# Altium integrated library Renesas Standard Linear.IntLib: 102 symbols (part 1 of 3)
Pins are listed as number, name and electrical type; pins without a type are passive.

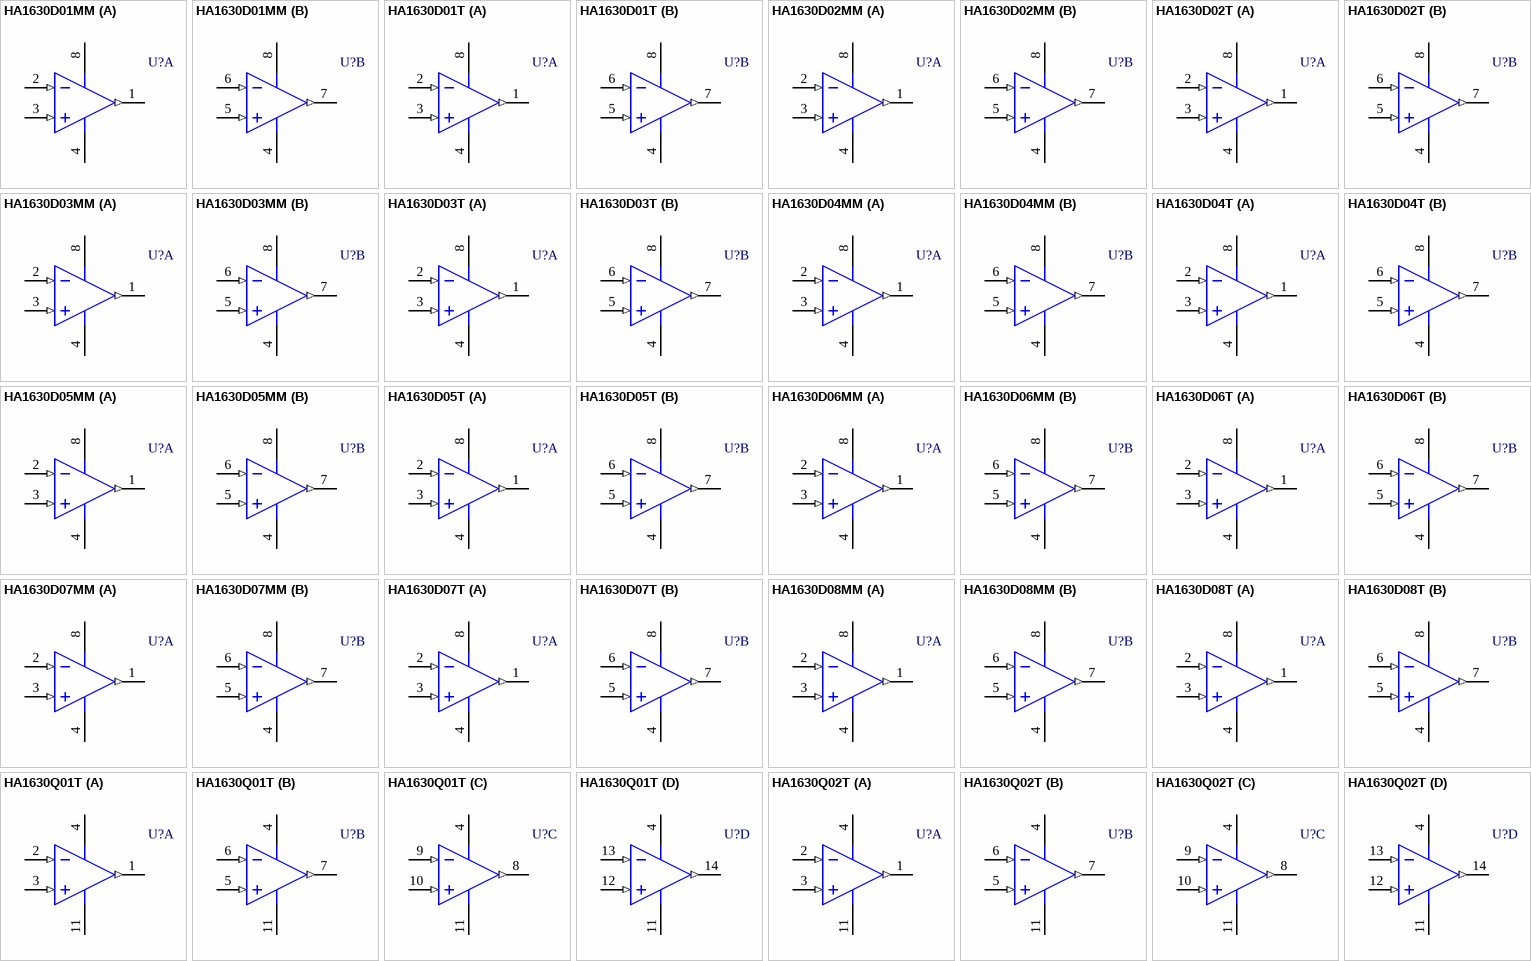
[diagram p0: symbols HA1630D01MM to HA1630Q02T]

## HA1630D01MM
designator U?
Dual CMOS Operational Amplifiers, Output full swing, Standard, VDD (1.8 to 5.5V), -40 to +85°C, 8-Pin MMPAK; Published: 5-Feb-2010; DatasheetVersion: Rev.2.00, Feb-2007; PackageVersion: 2008; PackageReference: PLSP0008JC-A; Publisher: Altium Limited; PackageDescription: 8-Pin Plastic Thin Small Outline Package 0.65 mm Pitch (MMPAK-8); Code_JEITA: P-LSOP8-2.8x2.95-0.65; ComponentLink1Description: Manufacturer Link; ComponentLink1URL: http://sg.renesas.com/fmwk.jsp?cnt=standard_linear_landing.jsp&fp=/products/standard_ic/general_purpose_linear/standard_linear; ComponentLink2Description: Datasheet; ComponentLink2URL: http://documentation.renesas.com/eng/products/linear/rej03d0800_ha1630d01ds.pdf
footprint PLSP0008JC-A_N (TSOP, 8-Leads, Body 2.95x2.8mm, Pitch 0.65mm, IPC Medium Density)
footprint PLSP0008JC-A_L (TSOP, 8-Leads, Body 2.95x2.8mm, Pitch 0.65mm, IPC High Density)
footprint PLSP0008JC-A_M (TSOP, 8-Leads, Body 2.95x2.8mm, Pitch 0.65mm, IPC Low Density)
pins on every part: 4 VSS (power), 8 VDD (power)
part A pins: 1 OUT (out), 2 IN- (in), 3 IN+ (in)
part B pins: 5 IN+ (in), 6 IN- (in), 7 OUT (out)

## HA1630D01T
designator U?
Dual CMOS Operational Amplifiers, Output full swing, Standard, VDD (1.8 to 5.5V), -40 to +85°C, 8-Pin TSSOP; Published: 5-Feb-2010; DatasheetVersion: Rev.2.00, Feb-2007; PackageVersion: Sep-2005; PackageReference: PTSP0008JC-B; Publisher: Altium Limited; PackageDescription: 8-Pin Plastic Thin Small Outline Package 0.65 mm Pitch (TSSOP-8); Code_JEITA: P-TSSOP8-4.4x3-0.65; ComponentLink1Description: Manufacturer Link; ComponentLink1URL: http://sg.renesas.com/fmwk.jsp?cnt=standard_linear_landing.jsp&fp=/products/standard_ic/general_purpose_linear/standard_linear; ComponentLink2Description: Datasheet; ComponentLink2URL: http://documentation.renesas.com/eng/products/linear/rej03d0800_ha1630d01ds.pdf; ComponentLink3Description: Packaging Specification; ComponentLink3URL: http://sg.renesas.com/media/products/common_info/package/pdf/ic/code/ptsp0008jc_b.pdf
footprint PTSP0008JC-B_N (TSOP, 8-Leads, Body 3x4.4mm, Pitch 0.65mm, IPC Medium Density)
footprint PTSP0008JC-B_L (TSOP, 8-Leads, Body 3x4.4mm, Pitch 0.65mm, IPC High Density)
footprint PTSP0008JC-B_M (TSOP, 8-Leads, Body 3x4.4mm, Pitch 0.65mm, IPC Low Density)
pins on every part: 4 VSS (power), 8 VDD (power)
part A pins: 1 OUT (out), 2 IN- (in), 3 IN+ (in)
part B pins: 5 IN+ (in), 6 IN- (in), 7 OUT (out)

## HA1630D02MM
designator U?
Dual CMOS Operational Amplifiers, Output full swing, Standard, VDD (1.8 to 5.5V), -40 to +85°C, 8-Pin MMPAK; Published: 5-Feb-2010; DatasheetVersion: Rev.2.00, Feb-2007; PackageVersion: 2008; PackageReference: PLSP0008JC-A; Publisher: Altium Limited; PackageDescription: 8-Pin Plastic Thin Small Outline Package 0.65 mm Pitch (MMPAK-8); Code_JEITA: P-LSOP8-2.8x2.95-0.65; ComponentLink1Description: Manufacturer Link; ComponentLink1URL: http://sg.renesas.com/fmwk.jsp?cnt=standard_linear_landing.jsp&fp=/products/standard_ic/general_purpose_linear/standard_linear; ComponentLink2Description: Datasheet; ComponentLink2URL: http://documentation.renesas.com/eng/products/linear/rej03d0800_ha1630d01ds.pdf
footprint PLSP0008JC-A_N (TSOP, 8-Leads, Body 2.95x2.8mm, Pitch 0.65mm, IPC Medium Density)
footprint PLSP0008JC-A_L (TSOP, 8-Leads, Body 2.95x2.8mm, Pitch 0.65mm, IPC High Density)
footprint PLSP0008JC-A_M (TSOP, 8-Leads, Body 2.95x2.8mm, Pitch 0.65mm, IPC Low Density)
pins on every part: 4 VSS (power), 8 VDD (power)
part A pins: 1 OUT (out), 2 IN- (in), 3 IN+ (in)
part B pins: 5 IN+ (in), 6 IN- (in), 7 OUT (out)

## HA1630D02T
designator U?
Dual CMOS Operational Amplifiers, Output full swing, Standard, VDD (1.8 to 5.5V), -40 to +85°C, 8-Pin TSSOP; Published: 5-Feb-2010; DatasheetVersion: Rev.2.00, Feb-2007; PackageVersion: Sep-2005; PackageReference: PTSP0008JC-B; Publisher: Altium Limited; PackageDescription: 8-Pin Plastic Thin Small Outline Package 0.65 mm Pitch (TSSOP-8); Code_JEITA: P-TSSOP8-4.4x3-0.65; ComponentLink1Description: Manufacturer Link; ComponentLink1URL: http://sg.renesas.com/fmwk.jsp?cnt=standard_linear_landing.jsp&fp=/products/standard_ic/general_purpose_linear/standard_linear; ComponentLink2Description: Datasheet; ComponentLink2URL: http://documentation.renesas.com/eng/products/linear/rej03d0800_ha1630d01ds.pdf; ComponentLink3Description: Packaging Specification; ComponentLink3URL: http://sg.renesas.com/media/products/common_info/package/pdf/ic/code/ptsp0008jc_b.pdf
footprint PTSP0008JC-B_N (TSOP, 8-Leads, Body 3x4.4mm, Pitch 0.65mm, IPC Medium Density)
footprint PTSP0008JC-B_L (TSOP, 8-Leads, Body 3x4.4mm, Pitch 0.65mm, IPC High Density)
footprint PTSP0008JC-B_M (TSOP, 8-Leads, Body 3x4.4mm, Pitch 0.65mm, IPC Low Density)
pins on every part: 4 VSS (power), 8 VDD (power)
part A pins: 1 OUT (out), 2 IN- (in), 3 IN+ (in)
part B pins: 5 IN+ (in), 6 IN- (in), 7 OUT (out)

## HA1630D03MM
designator U?
Dual CMOS Operational Amplifiers, Output full swing, Standard, VDD (1.8 to 5.5V), -40 to +85°C, 8-Pin MMPAK; Published: 5-Feb-2010; DatasheetVersion: Rev.2.00, Feb-2007; PackageVersion: 2008; PackageReference: PLSP0008JC-A; Publisher: Altium Limited; PackageDescription: 8-Pin Plastic Thin Small Outline Package 0.65 mm Pitch (MMPAK-8); Code_JEITA: P-LSOP8-2.8x2.95-0.65; ComponentLink1Description: Manufacturer Link; ComponentLink1URL: http://sg.renesas.com/fmwk.jsp?cnt=standard_linear_landing.jsp&fp=/products/standard_ic/general_purpose_linear/standard_linear; ComponentLink2Description: Datasheet; ComponentLink2URL: http://documentation.renesas.com/eng/products/linear/rej03d0800_ha1630d01ds.pdf
footprint PLSP0008JC-A_N (TSOP, 8-Leads, Body 2.95x2.8mm, Pitch 0.65mm, IPC Medium Density)
footprint PLSP0008JC-A_L (TSOP, 8-Leads, Body 2.95x2.8mm, Pitch 0.65mm, IPC High Density)
footprint PLSP0008JC-A_M (TSOP, 8-Leads, Body 2.95x2.8mm, Pitch 0.65mm, IPC Low Density)
pins on every part: 4 VSS (power), 8 VDD (power)
part A pins: 1 OUT (out), 2 IN- (in), 3 IN+ (in)
part B pins: 5 IN+ (in), 6 IN- (in), 7 OUT (out)

## HA1630D03T
designator U?
Dual CMOS Operational Amplifiers, Output full swing, Standard, VDD (1.8 to 5.5V), -40 to +85°C, 8-Pin TSSOP; Published: 5-Feb-2010; DatasheetVersion: Rev.2.00, Feb-2007; PackageVersion: Sep-2005; PackageReference: PTSP0008JC-B; Publisher: Altium Limited; PackageDescription: 8-Pin Plastic Thin Small Outline Package 0.65 mm Pitch (TSSOP-8); Code_JEITA: P-TSSOP8-4.4x3-0.65; ComponentLink1Description: Manufacturer Link; ComponentLink1URL: http://sg.renesas.com/fmwk.jsp?cnt=standard_linear_landing.jsp&fp=/products/standard_ic/general_purpose_linear/standard_linear; ComponentLink2Description: Datasheet; ComponentLink2URL: http://documentation.renesas.com/eng/products/linear/rej03d0800_ha1630d01ds.pdf; ComponentLink3Description: Packaging Specification; ComponentLink3URL: http://sg.renesas.com/media/products/common_info/package/pdf/ic/code/ptsp0008jc_b.pdf
footprint PTSP0008JC-B_N (TSOP, 8-Leads, Body 3x4.4mm, Pitch 0.65mm, IPC Medium Density)
footprint PTSP0008JC-B_L (TSOP, 8-Leads, Body 3x4.4mm, Pitch 0.65mm, IPC High Density)
footprint PTSP0008JC-B_M (TSOP, 8-Leads, Body 3x4.4mm, Pitch 0.65mm, IPC Low Density)
pins on every part: 4 VSS (power), 8 VDD (power)
part A pins: 1 OUT (out), 2 IN- (in), 3 IN+ (in)
part B pins: 5 IN+ (in), 6 IN- (in), 7 OUT (out)

## HA1630D04MM
designator U?
Dual CMOS Operational Amplifiers, Output full swing, High slew rate, VDD (1.8 to 5.5V), -40 to +85°C, 8-Pin MMPAK; Published: 5-Feb-2010; DatasheetVersion: Rev.2.00, Feb-2007; PackageVersion: 2008; PackageReference: PLSP0008JC-A; Publisher: Altium Limited; PackageDescription: 8-Pin Plastic Thin Small Outline Package 0.65 mm Pitch (MMPAK-8); Code_JEITA: P-LSOP8-2.8x2.95-0.65; ComponentLink1Description: Manufacturer Link; ComponentLink1URL: http://sg.renesas.com/fmwk.jsp?cnt=standard_linear_landing.jsp&fp=/products/standard_ic/general_purpose_linear/standard_linear; ComponentLink2Description: Datasheet; ComponentLink2URL: http://documentation.renesas.com/eng/products/linear/rej03d0801_ha1630d04ds.pdf
footprint PLSP0008JC-A_N (TSOP, 8-Leads, Body 2.95x2.8mm, Pitch 0.65mm, IPC Medium Density)
footprint PLSP0008JC-A_L (TSOP, 8-Leads, Body 2.95x2.8mm, Pitch 0.65mm, IPC High Density)
footprint PLSP0008JC-A_M (TSOP, 8-Leads, Body 2.95x2.8mm, Pitch 0.65mm, IPC Low Density)
pins on every part: 4 VSS (power), 8 VDD (power)
part A pins: 1 OUT (out), 2 IN- (in), 3 IN+ (in)
part B pins: 5 IN+ (in), 6 IN- (in), 7 OUT (out)

## HA1630D04T
designator U?
Dual CMOS Operational Amplifiers, Output full swing, High slew rate, VDD (1.8 to 5.5V), -40 to +85°C, 8-Pin TSSOP; Published: 5-Feb-2010; DatasheetVersion: Rev.2.00, Feb-2007; PackageVersion: Sep-2005; PackageReference: PTSP0008JC-B; Publisher: Altium Limited; PackageDescription: 8-Pin Plastic Thin Small Outline Package 0.65 mm Pitch (TSSOP-8); Code_JEITA: P-TSSOP8-4.4x3-0.65; ComponentLink1Description: Manufacturer Link; ComponentLink1URL: http://sg.renesas.com/fmwk.jsp?cnt=standard_linear_landing.jsp&fp=/products/standard_ic/general_purpose_linear/standard_linear; ComponentLink2Description: Datasheet; ComponentLink2URL: http://documentation.renesas.com/eng/products/linear/rej03d0801_ha1630d04ds.pdf; ComponentLink3Description: Packaging Specification; ComponentLink3URL: http://sg.renesas.com/media/products/common_info/package/pdf/ic/code/ptsp0008jc_b.pdf
footprint PTSP0008JC-B_N (TSOP, 8-Leads, Body 3x4.4mm, Pitch 0.65mm, IPC Medium Density)
footprint PTSP0008JC-B_L (TSOP, 8-Leads, Body 3x4.4mm, Pitch 0.65mm, IPC High Density)
footprint PTSP0008JC-B_M (TSOP, 8-Leads, Body 3x4.4mm, Pitch 0.65mm, IPC Low Density)
pins on every part: 4 VSS (power), 8 VDD (power)
part A pins: 1 OUT (out), 2 IN- (in), 3 IN+ (in)
part B pins: 5 IN+ (in), 6 IN- (in), 7 OUT (out)

## HA1630D05MM
designator U?
Dual CMOS Operational Amplifiers, Output full swing, High slew rate, VDD (1.8 to 5.5V), -40 to +85°C, 8-Pin MMPAK; Published: 5-Feb-2010; DatasheetVersion: Rev.2.00, Feb-2007; PackageVersion: 2008; PackageReference: PLSP0008JC-A; Publisher: Altium Limited; PackageDescription: 8-Pin Plastic Thin Small Outline Package 0.65 mm Pitch (MMPAK-8); Code_JEITA: P-LSOP8-2.8x2.95-0.65; ComponentLink1Description: Manufacturer Link; ComponentLink1URL: http://sg.renesas.com/fmwk.jsp?cnt=standard_linear_landing.jsp&fp=/products/standard_ic/general_purpose_linear/standard_linear; ComponentLink2Description: Datasheet; ComponentLink2URL: http://documentation.renesas.com/eng/products/linear/rej03d0801_ha1630d04ds.pdf
footprint PLSP0008JC-A_N (TSOP, 8-Leads, Body 2.95x2.8mm, Pitch 0.65mm, IPC Medium Density)
footprint PLSP0008JC-A_L (TSOP, 8-Leads, Body 2.95x2.8mm, Pitch 0.65mm, IPC High Density)
footprint PLSP0008JC-A_M (TSOP, 8-Leads, Body 2.95x2.8mm, Pitch 0.65mm, IPC Low Density)
pins on every part: 4 VSS (power), 8 VDD (power)
part A pins: 1 OUT (out), 2 IN- (in), 3 IN+ (in)
part B pins: 5 IN+ (in), 6 IN- (in), 7 OUT (out)

## HA1630D05T
designator U?
Dual CMOS Operational Amplifiers, Output full swing, High slew rate, VDD (1.8 to 5.5V), -40 to +85°C, 8-Pin TSSOP; Published: 5-Feb-2010; DatasheetVersion: Rev.2.00, Feb-2007; PackageVersion: Sep-2005; PackageReference: PTSP0008JC-B; Publisher: Altium Limited; PackageDescription: 8-Pin Plastic Thin Small Outline Package 0.65 mm Pitch (TSSOP-8); Code_JEITA: P-TSSOP8-4.4x3-0.65; ComponentLink1Description: Manufacturer Link; ComponentLink1URL: http://sg.renesas.com/fmwk.jsp?cnt=standard_linear_landing.jsp&fp=/products/standard_ic/general_purpose_linear/standard_linear; ComponentLink2Description: Datasheet; ComponentLink2URL: http://documentation.renesas.com/eng/products/linear/rej03d0801_ha1630d04ds.pdf; ComponentLink3Description: Packaging Specification; ComponentLink3URL: http://sg.renesas.com/media/products/common_info/package/pdf/ic/code/ptsp0008jc_b.pdf
footprint PTSP0008JC-B_N (TSOP, 8-Leads, Body 3x4.4mm, Pitch 0.65mm, IPC Medium Density)
footprint PTSP0008JC-B_L (TSOP, 8-Leads, Body 3x4.4mm, Pitch 0.65mm, IPC High Density)
footprint PTSP0008JC-B_M (TSOP, 8-Leads, Body 3x4.4mm, Pitch 0.65mm, IPC Low Density)
pins on every part: 4 VSS (power), 8 VDD (power)
part A pins: 1 OUT (out), 2 IN- (in), 3 IN+ (in)
part B pins: 5 IN+ (in), 6 IN- (in), 7 OUT (out)

## HA1630D06MM
designator U?
Dual CMOS Operational Amplifiers, Output full swing, High slew rate, VDD (1.8 to 5.5V), -40 to +85°C, 8-Pin MMPAK; Published: 5-Feb-2010; DatasheetVersion: Rev.2.00, Feb-2007; PackageVersion: 2008; PackageReference: PLSP0008JC-A; Publisher: Altium Limited; PackageDescription: 8-Pin Plastic Thin Small Outline Package 0.65 mm Pitch (MMPAK-8); Code_JEITA: P-LSOP8-2.8x2.95-0.65; ComponentLink1Description: Manufacturer Link; ComponentLink1URL: http://sg.renesas.com/fmwk.jsp?cnt=standard_linear_landing.jsp&fp=/products/standard_ic/general_purpose_linear/standard_linear; ComponentLink2Description: Datasheet; ComponentLink2URL: http://documentation.renesas.com/eng/products/linear/rej03d0801_ha1630d04ds.pdf
footprint PLSP0008JC-A_N (TSOP, 8-Leads, Body 2.95x2.8mm, Pitch 0.65mm, IPC Medium Density)
footprint PLSP0008JC-A_L (TSOP, 8-Leads, Body 2.95x2.8mm, Pitch 0.65mm, IPC High Density)
footprint PLSP0008JC-A_M (TSOP, 8-Leads, Body 2.95x2.8mm, Pitch 0.65mm, IPC Low Density)
pins on every part: 4 VSS (power), 8 VDD (power)
part A pins: 1 OUT (out), 2 IN- (in), 3 IN+ (in)
part B pins: 5 IN+ (in), 6 IN- (in), 7 OUT (out)

## HA1630D06T
designator U?
Dual CMOS Operational Amplifiers, Output full swing, High slew rate, VDD (1.8 to 5.5V), -40 to +85°C, 8-Pin TSSOP; Published: 5-Feb-2010; DatasheetVersion: Rev.2.00, Feb-2007; PackageVersion: Sep-2005; PackageReference: PTSP0008JC-B; Publisher: Altium Limited; PackageDescription: 8-Pin Plastic Thin Small Outline Package 0.65 mm Pitch (TSSOP-8); Code_JEITA: P-TSSOP8-4.4x3-0.65; ComponentLink1Description: Manufacturer Link; ComponentLink1URL: http://sg.renesas.com/fmwk.jsp?cnt=standard_linear_landing.jsp&fp=/products/standard_ic/general_purpose_linear/standard_linear; ComponentLink2Description: Datasheet; ComponentLink2URL: http://documentation.renesas.com/eng/products/linear/rej03d0801_ha1630d04ds.pdf; ComponentLink3Description: Packaging Specification; ComponentLink3URL: http://sg.renesas.com/media/products/common_info/package/pdf/ic/code/ptsp0008jc_b.pdf
footprint PTSP0008JC-B_N (TSOP, 8-Leads, Body 3x4.4mm, Pitch 0.65mm, IPC Medium Density)
footprint PTSP0008JC-B_L (TSOP, 8-Leads, Body 3x4.4mm, Pitch 0.65mm, IPC High Density)
footprint PTSP0008JC-B_M (TSOP, 8-Leads, Body 3x4.4mm, Pitch 0.65mm, IPC Low Density)
pins on every part: 4 VSS (power), 8 VDD (power)
part A pins: 1 OUT (out), 2 IN- (in), 3 IN+ (in)
part B pins: 5 IN+ (in), 6 IN- (in), 7 OUT (out)

## HA1630D07MM
designator U?
Dual CMOS High Drive Operational Amplifier, VDD (2.7 to 5.5V), -40 to +85°C, 8-Pin MMPAK; Published: 5-Feb-2010; DatasheetVersion: Rev.2.00, Nov-2007; PackageVersion: 2008; PackageReference: PLSP0008JC-A; Publisher: Altium Limited; PackageDescription: 8-Pin Plastic Thin Small Outline Package 0.65 mm Pitch (MMPAK-8); Code_JEITA: P-LSOP8-2.8x2.95-0.65; ComponentLink1Description: Manufacturer Link; ComponentLink1URL: http://sg.renesas.com/fmwk.jsp?cnt=standard_linear_landing.jsp&fp=/products/standard_ic/general_purpose_linear/standard_linear; ComponentLink2Description: Datasheet; ComponentLink2URL: http://documentation.renesas.com/eng/products/linear/rej03d0859_ha1630d07t.pdf
footprint PLSP0008JC-A_N (TSOP, 8-Leads, Body 2.95x2.8mm, Pitch 0.65mm, IPC Medium Density)
footprint PLSP0008JC-A_L (TSOP, 8-Leads, Body 2.95x2.8mm, Pitch 0.65mm, IPC High Density)
footprint PLSP0008JC-A_M (TSOP, 8-Leads, Body 2.95x2.8mm, Pitch 0.65mm, IPC Low Density)
pins on every part: 4 VSS (power), 8 VDD (power)
part A pins: 1 OUT (out), 2 IN- (in), 3 IN+ (in)
part B pins: 5 IN+ (in), 6 IN- (in), 7 OUT (out)

## HA1630D07T
designator U?
Dual CMOS High Drive Operational Amplifier, VDD (2.7 to 5.5V), -40 to +85°C, 8-Pin TSSOP; Published: 5-Feb-2010; DatasheetVersion: Rev.2.00, Nov-2007; PackageVersion: Sep-2005; PackageReference: PTSP0008JC-B; Publisher: Altium Limited; PackageDescription: 8-Pin Plastic Thin Small Outline Package 0.65 mm Pitch (TSSOP-8); Code_JEITA: P-TSSOP8-4.4x3-0.65; ComponentLink1Description: Manufacturer Link; ComponentLink1URL: http://sg.renesas.com/fmwk.jsp?cnt=standard_linear_landing.jsp&fp=/products/standard_ic/general_purpose_linear/standard_linear; ComponentLink2Description: Datasheet; ComponentLink2URL: http://documentation.renesas.com/eng/products/linear/rej03d0859_ha1630d07t.pdf; ComponentLink3Description: Packaging Specification; ComponentLink3URL: http://sg.renesas.com/media/products/common_info/package/pdf/ic/code/ptsp0008jc_b.pdf
footprint PTSP0008JC-B_N (TSOP, 8-Leads, Body 3x4.4mm, Pitch 0.65mm, IPC Medium Density)
footprint PTSP0008JC-B_L (TSOP, 8-Leads, Body 3x4.4mm, Pitch 0.65mm, IPC High Density)
footprint PTSP0008JC-B_M (TSOP, 8-Leads, Body 3x4.4mm, Pitch 0.65mm, IPC Low Density)
pins on every part: 4 VSS (power), 8 VDD (power)
part A pins: 1 OUT (out), 2 IN- (in), 3 IN+ (in)
part B pins: 5 IN+ (in), 6 IN- (in), 7 OUT (out)

## HA1630D08MM
designator U?
Dual CMOS High Drive Operational Amplifier, VDD (2.7 to 5.5V), -40 to +85°C, 8-Pin MMPAK; Published: 5-Feb-2010; DatasheetVersion: Rev.2.00, Nov-2007; PackageVersion: 2008; PackageReference: PLSP0008JC-A; Publisher: Altium Limited; PackageDescription: 8-Pin Plastic Thin Small Outline Package 0.65 mm Pitch (MMPAK-8); Code_JEITA: P-LSOP8-2.8x2.95-0.65; ComponentLink1Description: Manufacturer Link; ComponentLink1URL: http://sg.renesas.com/fmwk.jsp?cnt=standard_linear_landing.jsp&fp=/products/standard_ic/general_purpose_linear/standard_linear; ComponentLink2Description: Datasheet; ComponentLink2URL: http://documentation.renesas.com/eng/products/linear/rej03d0860_ha1630d08t.pdf
footprint PLSP0008JC-A_N (TSOP, 8-Leads, Body 2.95x2.8mm, Pitch 0.65mm, IPC Medium Density)
footprint PLSP0008JC-A_L (TSOP, 8-Leads, Body 2.95x2.8mm, Pitch 0.65mm, IPC High Density)
footprint PLSP0008JC-A_M (TSOP, 8-Leads, Body 2.95x2.8mm, Pitch 0.65mm, IPC Low Density)
pins on every part: 4 VSS (power), 8 VDD (power)
part A pins: 1 OUT (out), 2 IN- (in), 3 IN+ (in)
part B pins: 5 IN+ (in), 6 IN- (in), 7 OUT (out)

## HA1630D08T
designator U?
Dual CMOS High Drive Operational Amplifier, VDD (2.7 to 5.5V), -40 to +85°C, 8-Pin TSSOP; Published: 5-Feb-2010; DatasheetVersion: Rev.2.00, Nov-2007; PackageVersion: Sep-2005; PackageReference: PTSP0008JC-B; Publisher: Altium Limited; PackageDescription: 8-Pin Plastic Thin Small Outline Package 0.65 mm Pitch (TSSOP-8); Code_JEITA: P-TSSOP8-4.4x3-0.65; ComponentLink1Description: Manufacturer Link; ComponentLink1URL: http://sg.renesas.com/fmwk.jsp?cnt=standard_linear_landing.jsp&fp=/products/standard_ic/general_purpose_linear/standard_linear; ComponentLink2Description: Datasheet; ComponentLink2URL: http://documentation.renesas.com/eng/products/linear/rej03d0860_ha1630d08t.pdf; ComponentLink3Description: Packaging Specification; ComponentLink3URL: http://sg.renesas.com/media/products/common_info/package/pdf/ic/code/ptsp0008jc_b.pdf
footprint PTSP0008JC-B_N (TSOP, 8-Leads, Body 3x4.4mm, Pitch 0.65mm, IPC Medium Density)
footprint PTSP0008JC-B_L (TSOP, 8-Leads, Body 3x4.4mm, Pitch 0.65mm, IPC High Density)
footprint PTSP0008JC-B_M (TSOP, 8-Leads, Body 3x4.4mm, Pitch 0.65mm, IPC Low Density)
pins on every part: 4 VSS (power), 8 VDD (power)
part A pins: 1 OUT (out), 2 IN- (in), 3 IN+ (in)
part B pins: 5 IN+ (in), 6 IN- (in), 7 OUT (out)

## HA1630Q01T
designator U?
Quad CMOS Operational Amplifiers, Output full swing, Standard, VDD (1.8 to 5.5V), -40 to +85°C, 14-Pin TSSOP; Published: 5-Feb-2010; DatasheetVersion: Rev.1.00, Mar-2006; PackageVersion: Sep-2005; PackageReference: PTSP0014JA-B; Publisher: Altium Limited; PackageDescription: 14-Pin Plastic Thin Small Outline Package 0.65 mm Pitch; Code_JEITA: P-TSSOP14-4.4x5-0.65; ComponentLink1Description: Manufacturer Link; ComponentLink1URL: http://sg.renesas.com/fmwk.jsp?cnt=standard_linear_landing.jsp&fp=/products/standard_ic/general_purpose_linear/standard_linear; ComponentLink2Description: Datasheet; ComponentLink2URL: http://documentation.renesas.com/eng/products/linear/rej03d0802_ha1630q01ds.pdf; ComponentLink3Description: Packaging Specification; ComponentLink3URL: http://sg.renesas.com/media/products/common_info/package/pdf/ic/code/ptsp0014ja_b.pdf
footprint PTSP0014JA-B_N (TSOP, 14-Leads, Body 5x4.4mm, Pitch 0.65mm, IPC Medium Density)
footprint PTSP0014JA-B_L (TSOP, 14-Leads, Body 5x4.4mm, Pitch 0.65mm, IPC High Density)
footprint PTSP0014JA-B_M (TSOP, 14-Leads, Body 5x4.4mm, Pitch 0.65mm, IPC Low Density)
pins on every part: 4 VDD (power), 11 VSS (power)
part A pins: 1 OUT (out), 2 IN- (in), 3 IN+ (in)
part B pins: 5 IN+ (in), 6 IN- (in), 7 OUT (out)
part C pins: 8 OUT (out), 9 IN- (in), 10 IN+ (in)
part D pins: 12 IN+ (in), 13 IN- (in), 14 OUT (out)

## HA1630Q02T
designator U?
Quad CMOS Operational Amplifiers, Output full swing, Standard, VDD (1.8 to 5.5V), -40 to +85°C, 14-Pin TSSOP; Published: 5-Feb-2010; DatasheetVersion: Rev.1.00, Mar-2006; PackageVersion: Sep-2005; PackageReference: PTSP0014JA-B; Publisher: Altium Limited; PackageDescription: 14-Pin Plastic Thin Small Outline Package 0.65 mm Pitch; Code_JEITA: P-TSSOP14-4.4x5-0.65; ComponentLink1Description: Manufacturer Link; ComponentLink1URL: http://sg.renesas.com/fmwk.jsp?cnt=standard_linear_landing.jsp&fp=/products/standard_ic/general_purpose_linear/standard_linear; ComponentLink2Description: Datasheet; ComponentLink2URL: http://documentation.renesas.com/eng/products/linear/rej03d0802_ha1630q01ds.pdf; ComponentLink3Description: Packaging Specification; ComponentLink3URL: http://sg.renesas.com/media/products/common_info/package/pdf/ic/code/ptsp0014ja_b.pdf
footprint PTSP0014JA-B_N (TSOP, 14-Leads, Body 5x4.4mm, Pitch 0.65mm, IPC Medium Density)
footprint PTSP0014JA-B_L (TSOP, 14-Leads, Body 5x4.4mm, Pitch 0.65mm, IPC High Density)
footprint PTSP0014JA-B_M (TSOP, 14-Leads, Body 5x4.4mm, Pitch 0.65mm, IPC Low Density)
pins on every part: 4 VDD (power), 11 VSS (power)
part A pins: 1 OUT (out), 2 IN- (in), 3 IN+ (in)
part B pins: 5 IN+ (in), 6 IN- (in), 7 OUT (out)
part C pins: 8 OUT (out), 9 IN- (in), 10 IN+ (in)
part D pins: 12 IN+ (in), 13 IN- (in), 14 OUT (out)

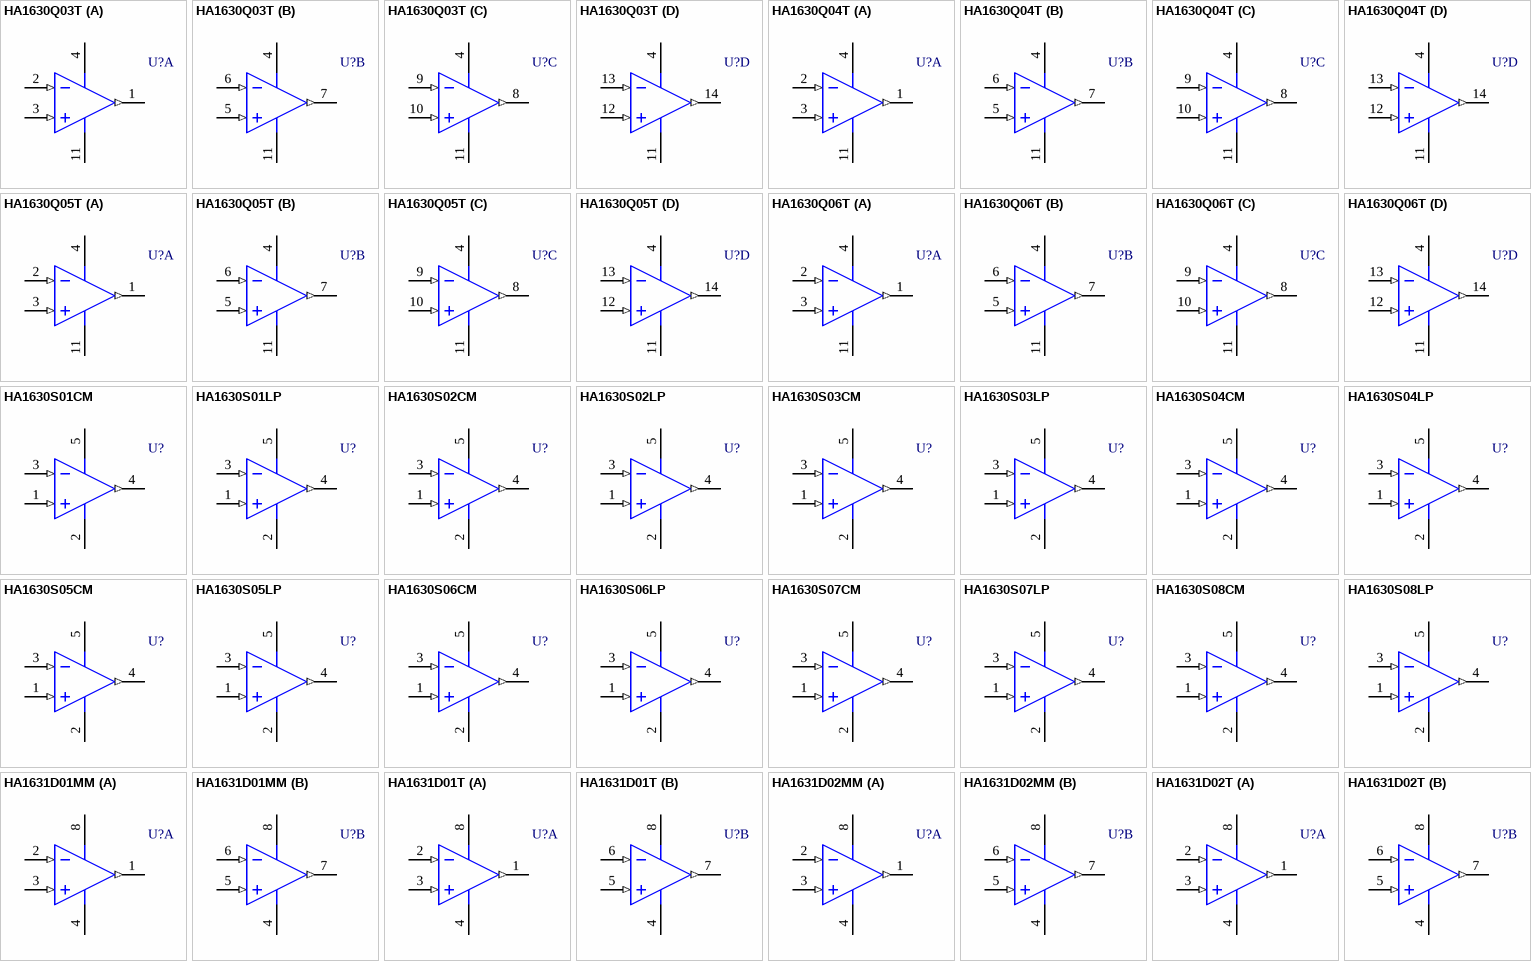
[diagram p1: symbols HA1630Q03T to HA1631D02T]

## HA1630Q03T
designator U?
Quad CMOS Operational Amplifiers, Output full swing, Standard, VDD (1.8 to 5.5V), -40 to +85°C, 14-Pin TSSOP; Published: 5-Feb-2010; DatasheetVersion: Rev.1.00, Mar-2006; PackageVersion: Sep-2005; PackageReference: PTSP0014JA-B; Publisher: Altium Limited; PackageDescription: 14-Pin Plastic Thin Small Outline Package 0.65 mm Pitch; Code_JEITA: P-TSSOP14-4.4x5-0.65; ComponentLink1Description: Manufacturer Link; ComponentLink1URL: http://sg.renesas.com/fmwk.jsp?cnt=standard_linear_landing.jsp&fp=/products/standard_ic/general_purpose_linear/standard_linear; ComponentLink2Description: Datasheet; ComponentLink2URL: http://documentation.renesas.com/eng/products/linear/rej03d0802_ha1630q01ds.pdf; ComponentLink3Description: Packaging Specification; ComponentLink3URL: http://sg.renesas.com/media/products/common_info/package/pdf/ic/code/ptsp0014ja_b.pdf
footprint PTSP0014JA-B_N (TSOP, 14-Leads, Body 5x4.4mm, Pitch 0.65mm, IPC Medium Density)
footprint PTSP0014JA-B_L (TSOP, 14-Leads, Body 5x4.4mm, Pitch 0.65mm, IPC High Density)
footprint PTSP0014JA-B_M (TSOP, 14-Leads, Body 5x4.4mm, Pitch 0.65mm, IPC Low Density)
pins on every part: 4 VDD (power), 11 VSS (power)
part A pins: 1 OUT (out), 2 IN- (in), 3 IN+ (in)
part B pins: 5 IN+ (in), 6 IN- (in), 7 OUT (out)
part C pins: 8 OUT (out), 9 IN- (in), 10 IN+ (in)
part D pins: 12 IN+ (in), 13 IN- (in), 14 OUT (out)

## HA1630Q04T
designator U?
Quad CMOS Operational Amplifiers, Output full swing, High slew rate, VDD (1.8 to 5.5V), -40 to +85°C, 14-Pin TSSOP; Published: 5-Feb-2010; DatasheetVersion: Rev.1.00, Mar-2006; PackageVersion: Sep-2005; PackageReference: PTSP0014JA-B; Publisher: Altium Limited; PackageDescription: 14-Pin Plastic Thin Small Outline Package 0.65 mm Pitch; Code_JEITA: P-TSSOP14-4.4x5-0.65; ComponentLink1Description: Manufacturer Link; ComponentLink1URL: http://sg.renesas.com/fmwk.jsp?cnt=standard_linear_landing.jsp&fp=/products/standard_ic/general_purpose_linear/standard_linear; ComponentLink2Description: Datasheet; ComponentLink2URL: http://documentation.renesas.com/eng/products/linear/rej03d0803_ha1630q04ds.pdf; ComponentLink3Description: Packaging Specification; ComponentLink3URL: http://sg.renesas.com/media/products/common_info/package/pdf/ic/code/ptsp0014ja_b.pdf
footprint PTSP0014JA-B_N (TSOP, 14-Leads, Body 5x4.4mm, Pitch 0.65mm, IPC Medium Density)
footprint PTSP0014JA-B_L (TSOP, 14-Leads, Body 5x4.4mm, Pitch 0.65mm, IPC High Density)
footprint PTSP0014JA-B_M (TSOP, 14-Leads, Body 5x4.4mm, Pitch 0.65mm, IPC Low Density)
pins on every part: 4 VDD (power), 11 VSS (power)
part A pins: 1 OUT (out), 2 IN- (in), 3 IN+ (in)
part B pins: 5 IN+ (in), 6 IN- (in), 7 OUT (out)
part C pins: 8 OUT (out), 9 IN- (in), 10 IN+ (in)
part D pins: 12 IN+ (in), 13 IN- (in), 14 OUT (out)

## HA1630Q05T
designator U?
Quad CMOS Operational Amplifiers, Output full swing, High slew rate, VDD (1.8 to 5.5V), -40 to +85°C, 14-Pin TSSOP; Published: 5-Feb-2010; DatasheetVersion: Rev.1.00, Mar-2006; PackageVersion: Sep-2005; PackageReference: PTSP0014JA-B; Publisher: Altium Limited; PackageDescription: 14-Pin Plastic Thin Small Outline Package 0.65 mm Pitch; Code_JEITA: P-TSSOP14-4.4x5-0.65; ComponentLink1Description: Manufacturer Link; ComponentLink1URL: http://sg.renesas.com/fmwk.jsp?cnt=standard_linear_landing.jsp&fp=/products/standard_ic/general_purpose_linear/standard_linear; ComponentLink2Description: Datasheet; ComponentLink2URL: http://documentation.renesas.com/eng/products/linear/rej03d0803_ha1630q04ds.pdf; ComponentLink3Description: Packaging Specification; ComponentLink3URL: http://sg.renesas.com/media/products/common_info/package/pdf/ic/code/ptsp0014ja_b.pdf
footprint PTSP0014JA-B_N (TSOP, 14-Leads, Body 5x4.4mm, Pitch 0.65mm, IPC Medium Density)
footprint PTSP0014JA-B_L (TSOP, 14-Leads, Body 5x4.4mm, Pitch 0.65mm, IPC High Density)
footprint PTSP0014JA-B_M (TSOP, 14-Leads, Body 5x4.4mm, Pitch 0.65mm, IPC Low Density)
pins on every part: 4 VDD (power), 11 VSS (power)
part A pins: 1 OUT (out), 2 IN- (in), 3 IN+ (in)
part B pins: 5 IN+ (in), 6 IN- (in), 7 OUT (out)
part C pins: 8 OUT (out), 9 IN- (in), 10 IN+ (in)
part D pins: 12 IN+ (in), 13 IN- (in), 14 OUT (out)

## HA1630Q06T
designator U?
Quad CMOS Operational Amplifiers, Output full swing, High slew rate, VDD (1.8 to 5.5V), -40 to +85°C, 14-Pin TSSOP; Published: 5-Feb-2010; DatasheetVersion: Rev.1.00, Mar-2006; PackageVersion: Sep-2005; PackageReference: PTSP0014JA-B; Publisher: Altium Limited; PackageDescription: 14-Pin Plastic Thin Small Outline Package 0.65 mm Pitch; Code_JEITA: P-TSSOP14-4.4x5-0.65; ComponentLink1Description: Manufacturer Link; ComponentLink1URL: http://sg.renesas.com/fmwk.jsp?cnt=standard_linear_landing.jsp&fp=/products/standard_ic/general_purpose_linear/standard_linear; ComponentLink2Description: Datasheet; ComponentLink2URL: http://documentation.renesas.com/eng/products/linear/rej03d0803_ha1630q04ds.pdf; ComponentLink3Description: Packaging Specification; ComponentLink3URL: http://sg.renesas.com/media/products/common_info/package/pdf/ic/code/ptsp0014ja_b.pdf
footprint PTSP0014JA-B_N (TSOP, 14-Leads, Body 5x4.4mm, Pitch 0.65mm, IPC Medium Density)
footprint PTSP0014JA-B_L (TSOP, 14-Leads, Body 5x4.4mm, Pitch 0.65mm, IPC High Density)
footprint PTSP0014JA-B_M (TSOP, 14-Leads, Body 5x4.4mm, Pitch 0.65mm, IPC Low Density)
pins on every part: 4 VDD (power), 11 VSS (power)
part A pins: 1 OUT (out), 2 IN- (in), 3 IN+ (in)
part B pins: 5 IN+ (in), 6 IN- (in), 7 OUT (out)
part C pins: 8 OUT (out), 9 IN- (in), 10 IN+ (in)
part D pins: 12 IN+ (in), 13 IN- (in), 14 OUT (out)

## HA1630S01CM
designator U?
Single CMOS Operational Amplifier, Output full swing, Standard, VDD (1.8 to 5.5V), -40 to +85°C, 5-Pin CMPAK; Published: 5-Feb-2010; DatasheetVersion: Rev.1.00, Mar-2006; PackageVersion: Jan-2005; PackageReference: PTSP0005ZC-A; Publisher: Altium Limited; PackageDescription: 5-Pin Plastic SOT-353 Package 0.65 mm Pitch, 2.1 mm Lead Span; Code_JEITA: SC-88A; Code_IPC: SOT353-5; ComponentLink1Description: Manufacturer Link; ComponentLink1URL: http://sg.renesas.com/fmwk.jsp?cnt=standard_linear_landing.jsp&fp=/products/standard_ic/general_purpose_linear/standard_linear; ComponentLink2Description: Datasheet; ComponentLink2URL: http://documentation.renesas.com/eng/products/linear/rej03d0798_ha1630s01ds.pdf; ComponentLink3Description: Packaging Specification; ComponentLink3URL: http://sg.renesas.com/media/products/common_info/package/pdf/ic/code/ptsp0005zc_a.pdf
footprint PTSP0005ZC-A_N (SOT353, 5-Leads, Body 2x1.3mm, Pitch 0.65mm, Lead Span 2.1mm, IPC Medium Density)
footprint PTSP0005ZC-A_L (SOT353, 5-Leads, Body 2x1.3mm, Pitch 0.65mm, Lead Span 2.1mm, IPC High Density)
footprint PTSP0005ZC-A_M (SOT353, 5-Leads, Body 2x1.3mm, Pitch 0.65mm, Lead Span 2.1mm, IPC Low Density)
pins: 1 IN+ (in), 2 VSS (power), 3 IN- (in), 4 OUT (out), 5 VDD (power)

## HA1630S01LP
designator U?
Single CMOS Operational Amplifier, Output full swing, Standard, VDD (1.8 to 5.5V), -40 to +85°C, 5-Pin MPAK; Published: 5-Feb-2010; DatasheetVersion: Rev.1.00, Mar-2006; PackageVersion: Jan-2005; PackageReference: PLSP0005ZB-A; Publisher: Altium Limited; PackageDescription: 5-Lead Plastic Small Outline Transistor, 0.95 mm Pitch, 2.8 mm Lead Span; Code_JEITA: SC-74A; Code_IPC: SOT23-5; ComponentLink1Description: Manufacturer Link; ComponentLink1URL: http://sg.renesas.com/fmwk.jsp?cnt=standard_linear_landing.jsp&fp=/products/standard_ic/general_purpose_linear/standard_linear; ComponentLink2Description: Datasheet; ComponentLink2URL: http://documentation.renesas.com/eng/products/linear/rej03d0798_ha1630s01ds.pdf; ComponentLink3Description: Packaging Specification; ComponentLink3URL: http://sg.renesas.com/media/products/common_info/package/pdf/ic/code/plsp0005zb_a.pdf
footprint PLSP0005ZB-A_N (SOT23, 5-Leads, Body 2.95x1.6mm, Pitch 0.95mm, Lead Span 2.7mm, IPC Medium Density)
footprint PLSP0005ZB-A_L (SOT23, 5-Leads, Body 2.95x1.6mm, Pitch 0.95mm, Lead Span 2.7mm, IPC High Density)
footprint PLSP0005ZB-A_M (SOT23, 5-Leads, Body 2.95x1.6mm, Pitch 0.95mm, Lead Span 2.7mm, IPC Low Density)
pins: 1 IN+ (in), 2 VSS (power), 3 IN- (in), 4 OUT (out), 5 VDD (power)

## HA1630S02CM
designator U?
Single CMOS Operational Amplifier, Output full swing, Standard, VDD (1.8 to 5.5V), -40 to +85°C, 5-Pin CMPAK; Published: 5-Feb-2010; DatasheetVersion: Rev.1.00, Mar-2006; PackageVersion: Jan-2005; PackageReference: PTSP0005ZC-A; Publisher: Altium Limited; PackageDescription: 5-Pin Plastic SOT-353 Package 0.65 mm Pitch, 2.1 mm Lead Span; Code_JEITA: SC-88A; Code_IPC: SOT353-5; ComponentLink1Description: Manufacturer Link; ComponentLink1URL: http://sg.renesas.com/fmwk.jsp?cnt=standard_linear_landing.jsp&fp=/products/standard_ic/general_purpose_linear/standard_linear; ComponentLink2Description: Datasheet; ComponentLink2URL: http://documentation.renesas.com/eng/products/linear/rej03d0798_ha1630s01ds.pdf; ComponentLink3Description: Packaging Specification; ComponentLink3URL: http://sg.renesas.com/media/products/common_info/package/pdf/ic/code/ptsp0005zc_a.pdf
footprint PTSP0005ZC-A_N (SOT353, 5-Leads, Body 2x1.3mm, Pitch 0.65mm, Lead Span 2.1mm, IPC Medium Density)
footprint PTSP0005ZC-A_L (SOT353, 5-Leads, Body 2x1.3mm, Pitch 0.65mm, Lead Span 2.1mm, IPC High Density)
footprint PTSP0005ZC-A_M (SOT353, 5-Leads, Body 2x1.3mm, Pitch 0.65mm, Lead Span 2.1mm, IPC Low Density)
pins: 1 IN+ (in), 2 VSS (power), 3 IN- (in), 4 OUT (out), 5 VDD (power)

## HA1630S02LP
designator U?
Single CMOS Operational Amplifier, Output full swing, Standard, VDD (1.8 to 5.5V), -40 to +85°C, 5-Pin MPAK; Published: 5-Feb-2010; DatasheetVersion: Rev.1.00, Mar-2006; PackageVersion: Jan-2005; PackageReference: PLSP0005ZB-A; Publisher: Altium Limited; PackageDescription: 5-Lead Plastic Small Outline Transistor, 0.95 mm Pitch, 2.8 mm Lead Span; Code_JEITA: SC-74A; Code_IPC: SOT23-5; ComponentLink1Description: Manufacturer Link; ComponentLink1URL: http://sg.renesas.com/fmwk.jsp?cnt=standard_linear_landing.jsp&fp=/products/standard_ic/general_purpose_linear/standard_linear; ComponentLink2Description: Datasheet; ComponentLink2URL: http://documentation.renesas.com/eng/products/linear/rej03d0798_ha1630s01ds.pdf; ComponentLink3Description: Packaging Specification; ComponentLink3URL: http://sg.renesas.com/media/products/common_info/package/pdf/ic/code/plsp0005zb_a.pdf
footprint PLSP0005ZB-A_N (SOT23, 5-Leads, Body 2.95x1.6mm, Pitch 0.95mm, Lead Span 2.7mm, IPC Medium Density)
footprint PLSP0005ZB-A_L (SOT23, 5-Leads, Body 2.95x1.6mm, Pitch 0.95mm, Lead Span 2.7mm, IPC High Density)
footprint PLSP0005ZB-A_M (SOT23, 5-Leads, Body 2.95x1.6mm, Pitch 0.95mm, Lead Span 2.7mm, IPC Low Density)
pins: 1 IN+ (in), 2 VSS (power), 3 IN- (in), 4 OUT (out), 5 VDD (power)

## HA1630S03CM
designator U?
Single CMOS Operational Amplifier, Output full swing, Standard, VDD (1.8 to 5.5V), -40 to +85°C, 5-Pin CMPAK; Published: 5-Feb-2010; DatasheetVersion: Rev.1.00, Mar-2006; PackageVersion: Jan-2005; PackageReference: PTSP0005ZC-A; Publisher: Altium Limited; PackageDescription: 5-Pin Plastic SOT-353 Package 0.65 mm Pitch, 2.1 mm Lead Span; Code_JEITA: SC-88A; Code_IPC: SOT353-5; ComponentLink1Description: Manufacturer Link; ComponentLink1URL: http://sg.renesas.com/fmwk.jsp?cnt=standard_linear_landing.jsp&fp=/products/standard_ic/general_purpose_linear/standard_linear; ComponentLink2Description: Datasheet; ComponentLink2URL: http://documentation.renesas.com/eng/products/linear/rej03d0798_ha1630s01ds.pdf; ComponentLink3Description: Packaging Specification; ComponentLink3URL: http://sg.renesas.com/media/products/common_info/package/pdf/ic/code/ptsp0005zc_a.pdf
footprint PTSP0005ZC-A_N (SOT353, 5-Leads, Body 2x1.3mm, Pitch 0.65mm, Lead Span 2.1mm, IPC Medium Density)
footprint PTSP0005ZC-A_L (SOT353, 5-Leads, Body 2x1.3mm, Pitch 0.65mm, Lead Span 2.1mm, IPC High Density)
footprint PTSP0005ZC-A_M (SOT353, 5-Leads, Body 2x1.3mm, Pitch 0.65mm, Lead Span 2.1mm, IPC Low Density)
pins: 1 IN+ (in), 2 VSS (power), 3 IN- (in), 4 OUT (out), 5 VDD (power)

## HA1630S03LP
designator U?
Single CMOS Operational Amplifier, Output full swing, Standard, VDD (1.8 to 5.5V), -40 to +85°C, 5-Pin MPAK; Published: 5-Feb-2010; DatasheetVersion: Rev.1.00, Mar-2006; PackageVersion: Jan-2005; PackageReference: PLSP0005ZB-A; Publisher: Altium Limited; PackageDescription: 5-Lead Plastic Small Outline Transistor, 0.95 mm Pitch, 2.8 mm Lead Span; Code_JEITA: SC-74A; Code_IPC: SOT23-5; ComponentLink1Description: Manufacturer Link; ComponentLink1URL: http://sg.renesas.com/fmwk.jsp?cnt=standard_linear_landing.jsp&fp=/products/standard_ic/general_purpose_linear/standard_linear; ComponentLink2Description: Datasheet; ComponentLink2URL: http://documentation.renesas.com/eng/products/linear/rej03d0798_ha1630s01ds.pdf; ComponentLink3Description: Packaging Specification; ComponentLink3URL: http://sg.renesas.com/media/products/common_info/package/pdf/ic/code/plsp0005zb_a.pdf
footprint PLSP0005ZB-A_N (SOT23, 5-Leads, Body 2.95x1.6mm, Pitch 0.95mm, Lead Span 2.7mm, IPC Medium Density)
footprint PLSP0005ZB-A_L (SOT23, 5-Leads, Body 2.95x1.6mm, Pitch 0.95mm, Lead Span 2.7mm, IPC High Density)
footprint PLSP0005ZB-A_M (SOT23, 5-Leads, Body 2.95x1.6mm, Pitch 0.95mm, Lead Span 2.7mm, IPC Low Density)
pins: 1 IN+ (in), 2 VSS (power), 3 IN- (in), 4 OUT (out), 5 VDD (power)

## HA1630S04CM
designator U?
Single CMOS Operational Amplifier, Output full swing, High slew rate, VDD (1.8 to 5.5V), -40 to +85°C, 5-Pin CMPAK; Published: 5-Feb-2010; DatasheetVersion: Rev.1.00, Mar-2006; PackageVersion: Jan-2005; PackageReference: PTSP0005ZC-A; Publisher: Altium Limited; PackageDescription: 5-Pin Plastic SOT-353 Package 0.65 mm Pitch, 2.1 mm Lead Span; Code_JEITA: SC-88A; Code_IPC: SOT353-5; ComponentLink1Description: Manufacturer Link; ComponentLink1URL: http://sg.renesas.com/fmwk.jsp?cnt=standard_linear_landing.jsp&fp=/products/standard_ic/general_purpose_linear/standard_linear; ComponentLink2Description: Datasheet; ComponentLink2URL: http://documentation.renesas.com/eng/products/linear/rej03d0799_ha1630s04ds.pdf; ComponentLink3Description: Packaging Specification; ComponentLink3URL: http://sg.renesas.com/media/products/common_info/package/pdf/ic/code/ptsp0005zc_a.pdf
footprint PTSP0005ZC-A_N (SOT353, 5-Leads, Body 2x1.3mm, Pitch 0.65mm, Lead Span 2.1mm, IPC Medium Density)
footprint PTSP0005ZC-A_L (SOT353, 5-Leads, Body 2x1.3mm, Pitch 0.65mm, Lead Span 2.1mm, IPC High Density)
footprint PTSP0005ZC-A_M (SOT353, 5-Leads, Body 2x1.3mm, Pitch 0.65mm, Lead Span 2.1mm, IPC Low Density)
pins: 1 IN+ (in), 2 VSS (power), 3 IN- (in), 4 OUT (out), 5 VDD (power)

## HA1630S04LP
designator U?
Single CMOS Operational Amplifier, Output full swing, High slew rate, VDD (1.8 to 5.5V), -40 to +85°C, 5-Pin MPAK; Published: 5-Feb-2010; DatasheetVersion: Rev.1.00, Mar-2006; PackageVersion: Jan-2005; PackageReference: PLSP0005ZB-A; Publisher: Altium Limited; PackageDescription: 5-Lead Plastic Small Outline Transistor, 0.95 mm Pitch, 2.8 mm Lead Span; Code_JEITA: SC-74A; Code_IPC: SOT23-5; ComponentLink1Description: Manufacturer Link; ComponentLink1URL: http://sg.renesas.com/fmwk.jsp?cnt=standard_linear_landing.jsp&fp=/products/standard_ic/general_purpose_linear/standard_linear; ComponentLink2Description: Datasheet; ComponentLink2URL: http://documentation.renesas.com/eng/products/linear/rej03d0799_ha1630s04ds.pdf; ComponentLink3Description: Packaging Specification; ComponentLink3URL: http://sg.renesas.com/media/products/common_info/package/pdf/ic/code/plsp0005zb_a.pdf
footprint PLSP0005ZB-A_N (SOT23, 5-Leads, Body 2.95x1.6mm, Pitch 0.95mm, Lead Span 2.7mm, IPC Medium Density)
footprint PLSP0005ZB-A_L (SOT23, 5-Leads, Body 2.95x1.6mm, Pitch 0.95mm, Lead Span 2.7mm, IPC High Density)
footprint PLSP0005ZB-A_M (SOT23, 5-Leads, Body 2.95x1.6mm, Pitch 0.95mm, Lead Span 2.7mm, IPC Low Density)
pins: 1 IN+ (in), 2 VSS (power), 3 IN- (in), 4 OUT (out), 5 VDD (power)

## HA1630S05CM
designator U?
Single CMOS Operational Amplifier, Output full swing, High slew rate, VDD (1.8 to 5.5V), -40 to +85°C, 5-Pin CMPAK; Published: 5-Feb-2010; DatasheetVersion: Rev.1.00, Mar-2006; PackageVersion: Jan-2005; PackageReference: PTSP0005ZC-A; Publisher: Altium Limited; PackageDescription: 5-Pin Plastic SOT-353 Package 0.65 mm Pitch, 2.1 mm Lead Span; Code_JEITA: SC-88A; Code_IPC: SOT353-5; ComponentLink1Description: Manufacturer Link; ComponentLink1URL: http://sg.renesas.com/fmwk.jsp?cnt=standard_linear_landing.jsp&fp=/products/standard_ic/general_purpose_linear/standard_linear; ComponentLink2Description: Datasheet; ComponentLink2URL: http://documentation.renesas.com/eng/products/linear/rej03d0799_ha1630s04ds.pdf; ComponentLink3Description: Packaging Specification; ComponentLink3URL: http://sg.renesas.com/media/products/common_info/package/pdf/ic/code/ptsp0005zc_a.pdf
footprint PTSP0005ZC-A_N (SOT353, 5-Leads, Body 2x1.3mm, Pitch 0.65mm, Lead Span 2.1mm, IPC Medium Density)
footprint PTSP0005ZC-A_L (SOT353, 5-Leads, Body 2x1.3mm, Pitch 0.65mm, Lead Span 2.1mm, IPC High Density)
footprint PTSP0005ZC-A_M (SOT353, 5-Leads, Body 2x1.3mm, Pitch 0.65mm, Lead Span 2.1mm, IPC Low Density)
pins: 1 IN+ (in), 2 VSS (power), 3 IN- (in), 4 OUT (out), 5 VDD (power)

## HA1630S05LP
designator U?
Single CMOS Operational Amplifier, Output full swing, High slew rate, VDD (1.8 to 5.5V), -40 to +85°C, 5-Pin MPAK; Published: 5-Feb-2010; DatasheetVersion: Rev.1.00, Mar-2006; PackageVersion: Jan-2005; PackageReference: PLSP0005ZB-A; Publisher: Altium Limited; PackageDescription: 5-Lead Plastic Small Outline Transistor, 0.95 mm Pitch, 2.8 mm Lead Span; Code_JEITA: SC-74A; Code_IPC: SOT23-5; ComponentLink1Description: Manufacturer Link; ComponentLink1URL: http://sg.renesas.com/fmwk.jsp?cnt=standard_linear_landing.jsp&fp=/products/standard_ic/general_purpose_linear/standard_linear; ComponentLink2Description: Datasheet; ComponentLink2URL: http://documentation.renesas.com/eng/products/linear/rej03d0799_ha1630s04ds.pdf; ComponentLink3Description: Packaging Specification; ComponentLink3URL: http://sg.renesas.com/media/products/common_info/package/pdf/ic/code/plsp0005zb_a.pdf
footprint PLSP0005ZB-A_N (SOT23, 5-Leads, Body 2.95x1.6mm, Pitch 0.95mm, Lead Span 2.7mm, IPC Medium Density)
footprint PLSP0005ZB-A_L (SOT23, 5-Leads, Body 2.95x1.6mm, Pitch 0.95mm, Lead Span 2.7mm, IPC High Density)
footprint PLSP0005ZB-A_M (SOT23, 5-Leads, Body 2.95x1.6mm, Pitch 0.95mm, Lead Span 2.7mm, IPC Low Density)
pins: 1 IN+ (in), 2 VSS (power), 3 IN- (in), 4 OUT (out), 5 VDD (power)

## HA1630S06CM
designator U?
Single CMOS Operational Amplifier, Output full swing, High slew rate, VDD (1.8 to 5.5V), -40 to +85°C, 5-Pin CMPAK; Published: 5-Feb-2010; DatasheetVersion: Rev.1.00, Mar-2006; PackageVersion: Jan-2005; PackageReference: PTSP0005ZC-A; Publisher: Altium Limited; PackageDescription: 5-Pin Plastic SOT-353 Package 0.65 mm Pitch, 2.1 mm Lead Span; Code_JEITA: SC-88A; Code_IPC: SOT353-5; ComponentLink1Description: Manufacturer Link; ComponentLink1URL: http://sg.renesas.com/fmwk.jsp?cnt=standard_linear_landing.jsp&fp=/products/standard_ic/general_purpose_linear/standard_linear; ComponentLink2Description: Datasheet; ComponentLink2URL: http://documentation.renesas.com/eng/products/linear/rej03d0799_ha1630s04ds.pdf; ComponentLink3Description: Packaging Specification; ComponentLink3URL: http://sg.renesas.com/media/products/common_info/package/pdf/ic/code/ptsp0005zc_a.pdf
footprint PTSP0005ZC-A_N (SOT353, 5-Leads, Body 2x1.3mm, Pitch 0.65mm, Lead Span 2.1mm, IPC Medium Density)
footprint PTSP0005ZC-A_L (SOT353, 5-Leads, Body 2x1.3mm, Pitch 0.65mm, Lead Span 2.1mm, IPC High Density)
footprint PTSP0005ZC-A_M (SOT353, 5-Leads, Body 2x1.3mm, Pitch 0.65mm, Lead Span 2.1mm, IPC Low Density)
pins: 1 IN+ (in), 2 VSS (power), 3 IN- (in), 4 OUT (out), 5 VDD (power)

## HA1630S06LP
designator U?
Single CMOS Operational Amplifier, Output full swing, High slew rate, VDD (1.8 to 5.5V), -40 to +85°C, 5-Pin MPAK; Published: 5-Feb-2010; DatasheetVersion: Rev.1.00, Mar-2006; PackageVersion: Jan-2005; PackageReference: PLSP0005ZB-A; Publisher: Altium Limited; PackageDescription: 5-Lead Plastic Small Outline Transistor, 0.95 mm Pitch, 2.8 mm Lead Span; Code_JEITA: SC-74A; Code_IPC: SOT23-5; ComponentLink1Description: Manufacturer Link; ComponentLink1URL: http://sg.renesas.com/fmwk.jsp?cnt=standard_linear_landing.jsp&fp=/products/standard_ic/general_purpose_linear/standard_linear; ComponentLink2Description: Datasheet; ComponentLink2URL: http://documentation.renesas.com/eng/products/linear/rej03d0799_ha1630s04ds.pdf; ComponentLink3Description: Packaging Specification; ComponentLink3URL: http://sg.renesas.com/media/products/common_info/package/pdf/ic/code/plsp0005zb_a.pdf
footprint PLSP0005ZB-A_N (SOT23, 5-Leads, Body 2.95x1.6mm, Pitch 0.95mm, Lead Span 2.7mm, IPC Medium Density)
footprint PLSP0005ZB-A_L (SOT23, 5-Leads, Body 2.95x1.6mm, Pitch 0.95mm, Lead Span 2.7mm, IPC High Density)
footprint PLSP0005ZB-A_M (SOT23, 5-Leads, Body 2.95x1.6mm, Pitch 0.95mm, Lead Span 2.7mm, IPC Low Density)
pins: 1 IN+ (in), 2 VSS (power), 3 IN- (in), 4 OUT (out), 5 VDD (power)

## HA1630S07CM
designator U?
Single CMOS High Drive Operational Amplifier, VDD (2.7 to 5.5V), 40 to +85°C, 5-Pin CMPAK; Published: 5-Feb-2010; DatasheetVersion: Rev.1.00, Feb-2008; PackageVersion: Jan-2005; PackageReference: PTSP0005ZC-A; Publisher: Altium Limited; PackageDescription: 5-Pin Plastic SOT-353 Package 0.65 mm Pitch, 2.1 mm Lead Span; Code_JEITA: SC-88A; Code_IPC: SOT353-5; ComponentLink1Description: Manufacturer Link; ComponentLink1URL: http://sg.renesas.com/fmwk.jsp?cnt=standard_linear_landing.jsp&fp=/products/standard_ic/general_purpose_linear/standard_linear; ComponentLink2Description: Datasheet; ComponentLink2URL: http://documentation.renesas.com/eng/products/linear/rej03d0907_ha1630s07ds.pdf; ComponentLink3Description: Packaging Specification; ComponentLink3URL: http://sg.renesas.com/media/products/common_info/package/pdf/ic/code/ptsp0005zc_a.pdf
footprint PTSP0005ZC-A_N (SOT353, 5-Leads, Body 2x1.3mm, Pitch 0.65mm, Lead Span 2.1mm, IPC Medium Density)
footprint PTSP0005ZC-A_L (SOT353, 5-Leads, Body 2x1.3mm, Pitch 0.65mm, Lead Span 2.1mm, IPC High Density)
footprint PTSP0005ZC-A_M (SOT353, 5-Leads, Body 2x1.3mm, Pitch 0.65mm, Lead Span 2.1mm, IPC Low Density)
pins: 1 IN+ (in), 2 VSS (power), 3 IN- (in), 4 OUT (out), 5 VDD (power)

## HA1630S07LP
designator U?
Single CMOS High Drive Operational Amplifier, VDD (2.7 to 5.5V), 40 to +85°C, 5-Pin MPAK; Published: 5-Feb-2010; DatasheetVersion: Rev.1.00, Feb-2008; PackageVersion: Jan-2005; PackageReference: PLSP0005ZB-A; Publisher: Altium Limited; PackageDescription: 5-Lead Plastic Small Outline Transistor, 0.95 mm Pitch, 2.8 mm Lead Span; Code_JEITA: SC-74A; Code_IPC: SOT23-5; ComponentLink1Description: Manufacturer Link; ComponentLink1URL: http://sg.renesas.com/fmwk.jsp?cnt=standard_linear_landing.jsp&fp=/products/standard_ic/general_purpose_linear/standard_linear; ComponentLink2Description: Datasheet; ComponentLink2URL: http://documentation.renesas.com/eng/products/linear/rej03d0907_ha1630s07ds.pdf; ComponentLink3Description: Packaging Specification; ComponentLink3URL: http://sg.renesas.com/media/products/common_info/package/pdf/ic/code/plsp0005zb_a.pdf
footprint PLSP0005ZB-A_N (SOT23, 5-Leads, Body 2.95x1.6mm, Pitch 0.95mm, Lead Span 2.7mm, IPC Medium Density)
footprint PLSP0005ZB-A_L (SOT23, 5-Leads, Body 2.95x1.6mm, Pitch 0.95mm, Lead Span 2.7mm, IPC High Density)
footprint PLSP0005ZB-A_M (SOT23, 5-Leads, Body 2.95x1.6mm, Pitch 0.95mm, Lead Span 2.7mm, IPC Low Density)
pins: 1 IN+ (in), 2 VSS (power), 3 IN- (in), 4 OUT (out), 5 VDD (power)

## HA1630S08CM
designator U?
Single CMOS High Drive Operational Amplifier, VDD (2.7 to 5.5V), 40 to +85°C, 5-Pin CMPAK; Published: 5-Feb-2010; DatasheetVersion: Rev.1.00, Feb-2008; PackageVersion: Jan-2005; PackageReference: PTSP0005ZC-A; Publisher: Altium Limited; PackageDescription: 5-Pin Plastic SOT-353 Package 0.65 mm Pitch, 2.1 mm Lead Span; Code_JEITA: SC-88A; Code_IPC: SOT353-5; ComponentLink1Description: Manufacturer Link; ComponentLink1URL: http://sg.renesas.com/fmwk.jsp?cnt=standard_linear_landing.jsp&fp=/products/standard_ic/general_purpose_linear/standard_linear; ComponentLink2Description: Datasheet; ComponentLink2URL: http://documentation.renesas.com/eng/products/linear/rej03d0908_ha1630s08ds.pdf; ComponentLink3Description: Packaging Specification; ComponentLink3URL: http://sg.renesas.com/media/products/common_info/package/pdf/ic/code/ptsp0005zc_a.pdf
footprint PTSP0005ZC-A_N (SOT353, 5-Leads, Body 2x1.3mm, Pitch 0.65mm, Lead Span 2.1mm, IPC Medium Density)
footprint PTSP0005ZC-A_L (SOT353, 5-Leads, Body 2x1.3mm, Pitch 0.65mm, Lead Span 2.1mm, IPC High Density)
footprint PTSP0005ZC-A_M (SOT353, 5-Leads, Body 2x1.3mm, Pitch 0.65mm, Lead Span 2.1mm, IPC Low Density)
pins: 1 IN+ (in), 2 VSS (power), 3 IN- (in), 4 OUT (out), 5 VDD (power)

## HA1630S08LP
designator U?
Single CMOS High Drive Operational Amplifier, VDD (2.7 to 5.5V), 40 to +85°C, 5-Pin MPAK; Published: 5-Feb-2010; DatasheetVersion: Rev.1.00, Feb-2008; PackageVersion: Jan-2005; PackageReference: PLSP0005ZB-A; Publisher: Altium Limited; PackageDescription: 5-Lead Plastic Small Outline Transistor, 0.95 mm Pitch, 2.8 mm Lead Span; Code_JEITA: SC-74A; Code_IPC: SOT23-5; ComponentLink1Description: Manufacturer Link; ComponentLink1URL: http://sg.renesas.com/fmwk.jsp?cnt=standard_linear_landing.jsp&fp=/products/standard_ic/general_purpose_linear/standard_linear; ComponentLink2Description: Datasheet; ComponentLink2URL: http://documentation.renesas.com/eng/products/linear/rej03d0908_ha1630s08ds.pdf; ComponentLink3Description: Packaging Specification; ComponentLink3URL: http://sg.renesas.com/media/products/common_info/package/pdf/ic/code/plsp0005zb_a.pdf
footprint PLSP0005ZB-A_N (SOT23, 5-Leads, Body 2.95x1.6mm, Pitch 0.95mm, Lead Span 2.7mm, IPC Medium Density)
footprint PLSP0005ZB-A_L (SOT23, 5-Leads, Body 2.95x1.6mm, Pitch 0.95mm, Lead Span 2.7mm, IPC High Density)
footprint PLSP0005ZB-A_M (SOT23, 5-Leads, Body 2.95x1.6mm, Pitch 0.95mm, Lead Span 2.7mm, IPC Low Density)
pins: 1 IN+ (in), 2 VSS (power), 3 IN- (in), 4 OUT (out), 5 VDD (power)